# EAGLE library part 74F541PC (library Fairchild_By_element14_Batch_1)
Octal Buffer/Line Driver with 3-STATE Outputs
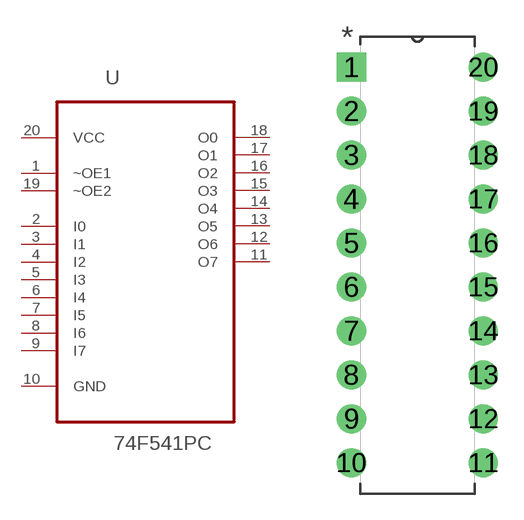
[diagram p61: symbol with the pads of DIP254P762X508-20; footprint DIP254P762X508-20]

Designator prefix U

## 74F541PC (MPN: 74F541PC; OC_FARNELL: 1013899; OC_NEWARK: 78K6263; PACKAGE: PDIP-20; SUPPLIER: Fairchild)  [DIP254P762X508-20]
1  ~OE1  in
2  I0  in
3  I1  in
4  I2  in
5  I3  in
6  I4  in
7  I5  in
8  I6  in
9  I7  in
10  GND  pas
11  O7  out
12  O6  out
13  O5  out
14  O4  out
15  O3  out
16  O2  out
17  O1  out
18  O0  out
19  ~OE2  in
20  VCC  pwr

## Footprint DIP254P762X508-20 (pad centres in mm)
drill 1.118 square: 1 -7.62,22.86
drill 1.118: 2 -7.62,20.32; 3 -7.62,17.78; 4 -7.62,15.24; 5 -7.62,12.7; 6 -7.62,10.16; 7 -7.62,7.62; 8 -7.62,5.08; 9 -7.62,2.54; 10 -7.62,0; 11 0,0; 12 0,2.54; 13 0,5.08; 14 0,7.62; 15 0,10.16; 16 0,12.7; 17 0,15.24; 18 0,17.78; 19 0,20.32; 20 0,22.86